# EAGLE library part EQUISAT-UMBILICAL-CONN (library BrownSpaceEngineering)
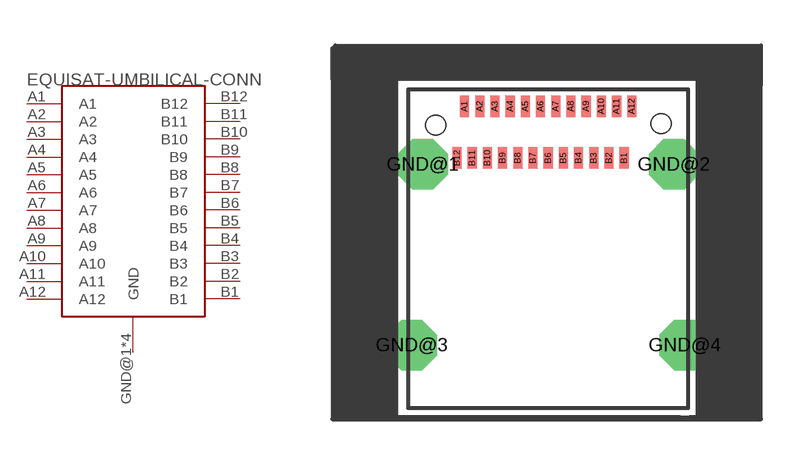
[diagram p7: symbol with the pads of USB-C-RCPT-SMT; footprint USB-C-RCPT-SMT]

Designator prefix -

## EQUISAT-UMBILICAL-CONN  [USB-C-RCPT-SMT]
A1  A1
A2  A2
A3  A3
A4  A4
A5  A5
A6  A6
A7  A7
A8  A8
A9  A9
A10  A10
A11  A11
A12  A12
B1  B1
B2  B2
B3  B3
B4  B4
B5  B5
B6  B6
B7  B7
B8  B8
B9  B9
B10  B10
B11  B11
B12  B12
GND@1  GND
GND@2  GND
GND@3  GND
GND@4  GND

## Footprint USB-C-RCPT-SMT (pad centres in mm)
smd 0.3 x 0.7: A1 -2.75,0; A2 -2.25,0; A3 -1.75,0; A4 -1.25,0; A5 -0.75,0; A6 -0.25,0; A7 0.25,0; A8 0.75,0; A9 1.25,0; A10 1.75,0; A11 2.25,0; A12 2.75,0; B1 2.5,-1.7; B2 2,-1.7; B3 1.5,-1.7; B4 1,-1.7; B5 0.5,-1.7; B6 0,-1.7; B7 -0.5,-1.7; B8 -1,-1.7; B9 -1.5,-1.7; B10 -2,-1.7; B11 -2.5,-1.7; B12 -3,-1.7
drill 1.1 pad 1.27 octagon: GND@1 -4.13,-1.91; GND@2 4.13,-1.91; GND@3 -4.49,-7.86; GND@4 4.49,-7.86
hole 0.65 at -3.7,-0.62
hole 0.65 at 3.72,-0.57